# Altium schematic symbol library 430 integreted.SchLib: 270 symbols (part 2 of 2)
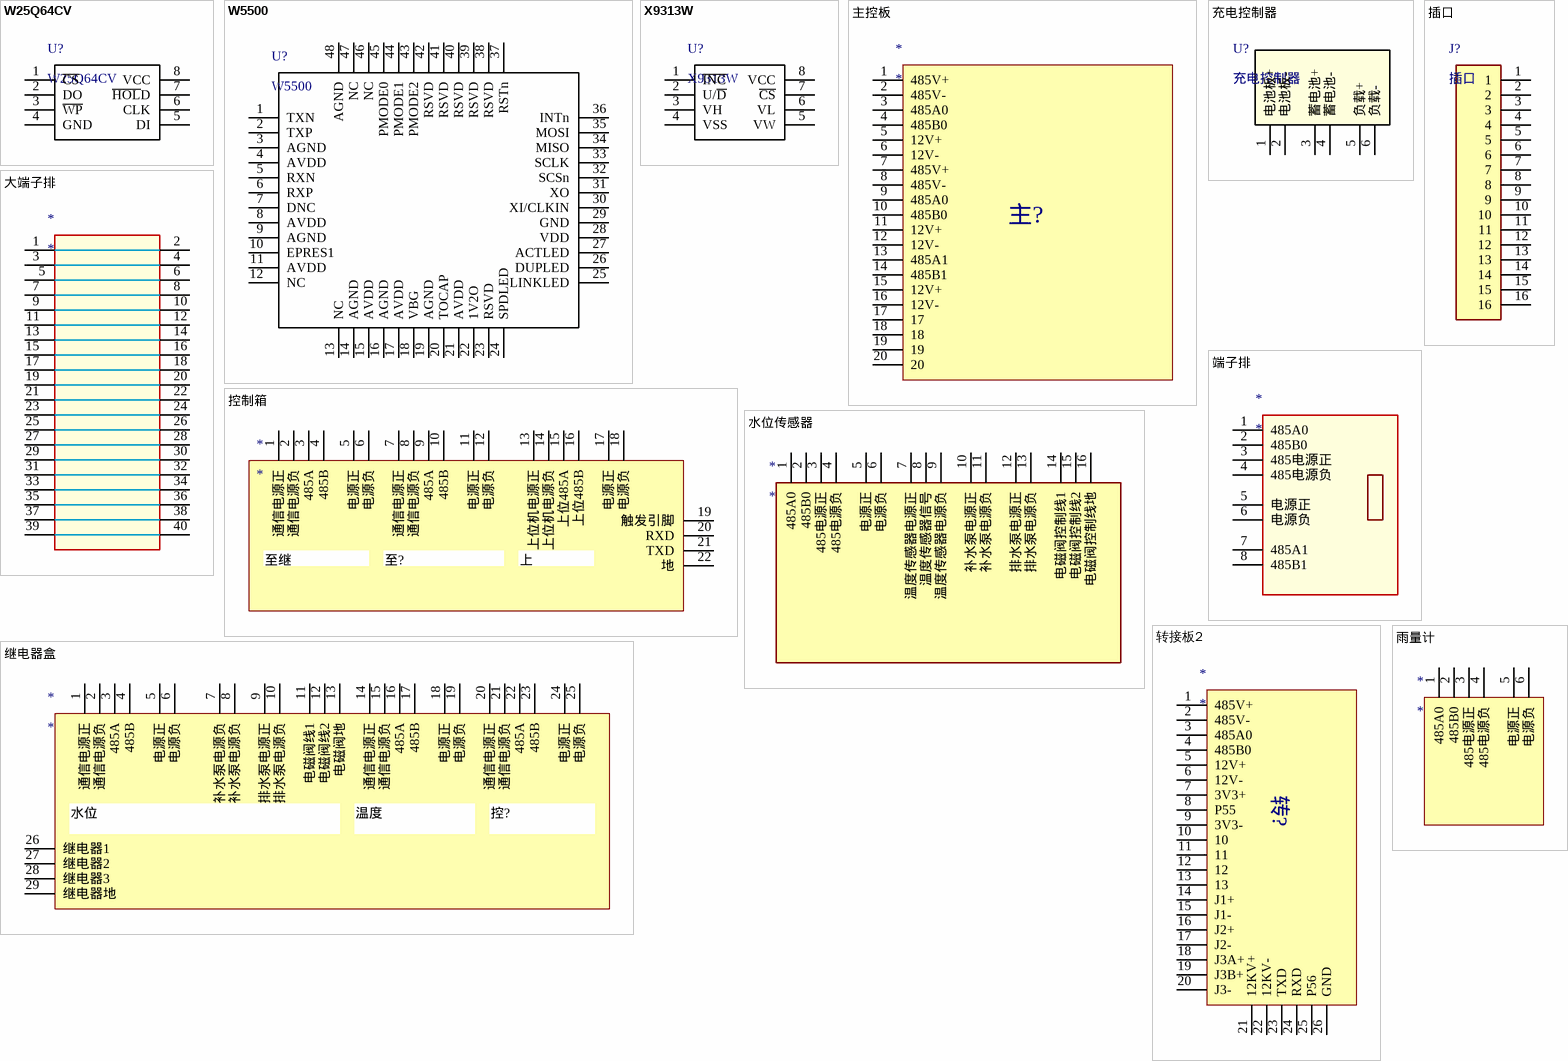
[diagram p11: symbols W25Q64CV to 雨量计]

## 主控板
designator *
pins: 1 485V+, 2 485V-, 3 485A0, 4 485B0, 5 12V+, 6 12V-, 7 485V+, 8 485V-, 9 485A0, 10 485B0, 11 12V+, 12 12V-, 13 485A1, 14 485B1, 15 12V+, 16 12V-, 17, 18, 19, 20
text: 主?

## 充电控制器
designator U?
pins: 1 电池板+, 2 电池板-, 3 蓄电池+, 4 蓄电池-, 5 负载+, 6 负载-

## 大端子排
designator *
pins: 1, 2, 3, 4, 5, 6, 7, 8, 9, 10, 11, 12, 13, 14, 15, 16, 17, 18, 19, 20, 21, 22, 23, 24, 25, 26, 27, 28, 29, 30, 31, 32, 33, 34, 35, 36, 37, 38, 39, 40

## 控制箱
designator *
pins: 1 通信电源正, 2 通信电源负, 3 485A, 4 485B, 5 电源正, 6 电源负, 7 通信电源正, 8 通信电源负, 9 485A, 10 485B, 11 电源正, 12 电源负, 13 上位机电源正, 14 上位机电源负, 15 上位485A, 16 上位485B, 17 电源正, 18 电源负, 19 触发引脚, 20 RXD, 21 TXD, 22 地
text: 至继; 至?; 上

## 插口
designator J?
pins: 1, 2, 3, 4, 5, 6, 7, 8, 9, 10, 11, 12, 13, 14, 15, 16

## 水位传感器
designator *
pins: 1 485A0, 2 485B0, 3 485电源正, 4 485电源负, 5 电源正, 6 电源负, 7 温度传感器电源正, 8 温度传感器信号, 9 温度传感器电源负, 10 补水泵电源正, 11 补水泵电源负, 12 排水泵电源正, 13 排水泵电源负, 14 电磁阀控制线1, 15 电磁阀控制线2, 16 电磁阀控制线地

## 端子排
designator *
pins: 1 485A0, 2 485B0, 3 485电源正, 4 485电源负, 5 电源正, 6 电源负, 7 485A1, 8 485B1

## 继电器盒
designator *
pins: 1 通信电源正, 2 通信电源负, 3 485A, 4 485B, 5 电源正, 6 电源负, 7 补水泵电源负, 8 补水泵电源负, 9 排水泵电源正, 10 排水泵电源负, 11 电磁阀线1, 12 电磁阀线2, 13 电磁阀地, 14 通信电源正, 15 通信电源负, 16 485A, 17 485B, 18 电源正, 19 电源负, 20 通信电源正, 21 通信电源负, 22 485A, 23 485B, 24 电源正, 25 电源负, 26 继电器1, 27 继电器2, 28 继电器3, 29 继电器地
text: ˮλ; 温度; 控?

## 转接板2
designator *
pins: 1 485V+, 2 485V-, 3 485A0, 4 485B0, 5 12V+, 6 12V-, 7 3V3+, 8 P55, 9 3V3-, 10, 11, 12, 13, 14 J1+, 15 J1-, 16 J2+, 17 J2-, 18 J3A+, 19 J3B+, 20 J3-, 21 12KV+, 22 12KV-, 23 TXD, 24 RXD, 25 P56, 26 GND
text: ת?

## 雨量计
designator *
pins: 1 485A0, 2 485B0, 3 485电源正, 4 485电源负, 5 电源正, 6 电源负